# EAGLE library part FLAT-FLEX-CONNECTOR-VERT-20POS (library FlashPCB_Connectors)
FLAT-FLEX-CONNECTOR-VERT-20POS - Flat Flex Connector 20 position Vertical Technical Specifications: Number of Positions: 20 Contact: One Side Mount: Vertical
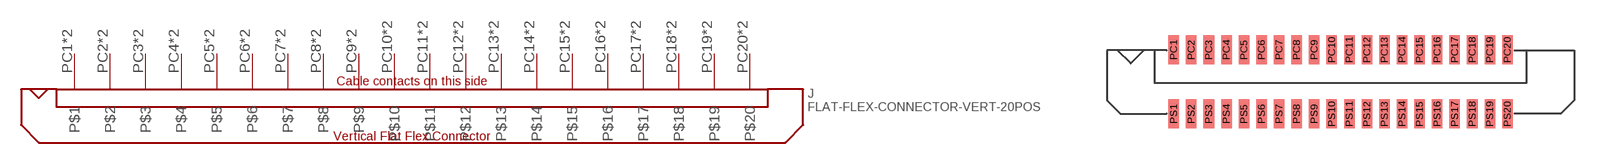
[diagram p130: symbol with the pads of FLAT-FLEX-CONNECTOR-MOLEX-52610-VERT-20POS; footprint FLAT-FLEX-CONNECTOR-MOLEX-52610-VERT-20POS]

Designator prefix J

## FLAT-FLEX-CONNECTOR-VERT-20POS1MM-PITCH  [FLAT-FLEX-CONNECTOR-MOLEX-52610-VERT-20POS]
PC1  P$1
PC2  P$2
PC3  P$3
PC4  P$4
PC5  P$5
PC6  P$6
PC7  P$7
PC8  P$8
PC9  P$9
PC10  P$10
PC11  P$11
PC12  P$12
PC13  P$13
PC14  P$14
PC15  P$15
PC16  P$16
PC17  P$17
PC18  P$18
PC19  P$19
PC20  P$20
PS1  P$1
PS2  P$2
PS3  P$3
PS4  P$4
PS5  P$5
PS6  P$6
PS7  P$7
PS8  P$8
PS9  P$9
PS10  P$10
PS11  P$11
PS12  P$12
PS13  P$13
PS14  P$14
PS15  P$15
PS16  P$16
PS17  P$17
PS18  P$18
PS19  P$19
PS20  P$20

## Footprint FLAT-FLEX-CONNECTOR-MOLEX-52610-VERT-20POS (pad centres in mm)
smd 0.6 x 1.65: PC1 -9.5,1.825; PC2 -8.5,1.825; PC3 -7.5,1.825; PC4 -6.5,1.825; PC5 -5.5,1.825; PC6 -4.5,1.825; PC7 -3.5,1.825; PC8 -2.5,1.825; PC9 -1.5,1.825; PC10 -0.5,1.825; PC11 0.5,1.825; PC12 1.5,1.825; PC13 2.5,1.825; PC14 3.5,1.825; PC15 4.5,1.825; PC16 5.5,1.825; PC17 6.5,1.825; PC18 7.5,1.825; PC19 8.5,1.825; PC20 9.5,1.825; PS1 -9.5,-1.825; PS2 -8.5,-1.825; PS3 -7.5,-1.825; PS4 -6.5,-1.825; PS5 -5.5,-1.825; PS6 -4.5,-1.825; PS7 -3.5,-1.825; PS8 -2.5,-1.825; PS9 -1.5,-1.825; PS10 -0.5,-1.825; PS11 0.5,-1.825; PS12 1.5,-1.825; PS13 2.5,-1.825; PS14 3.5,-1.825; PS15 4.5,-1.825; PS16 5.5,-1.825; PS17 6.5,-1.825; PS18 7.5,-1.825; PS19 8.5,-1.825; PS20 9.5,-1.825